# Altium schematic symbol library индикаторные эл-ты.SchLib: 14 symbols
Pins are listed as number, name and electrical type; pins without a type are passive.

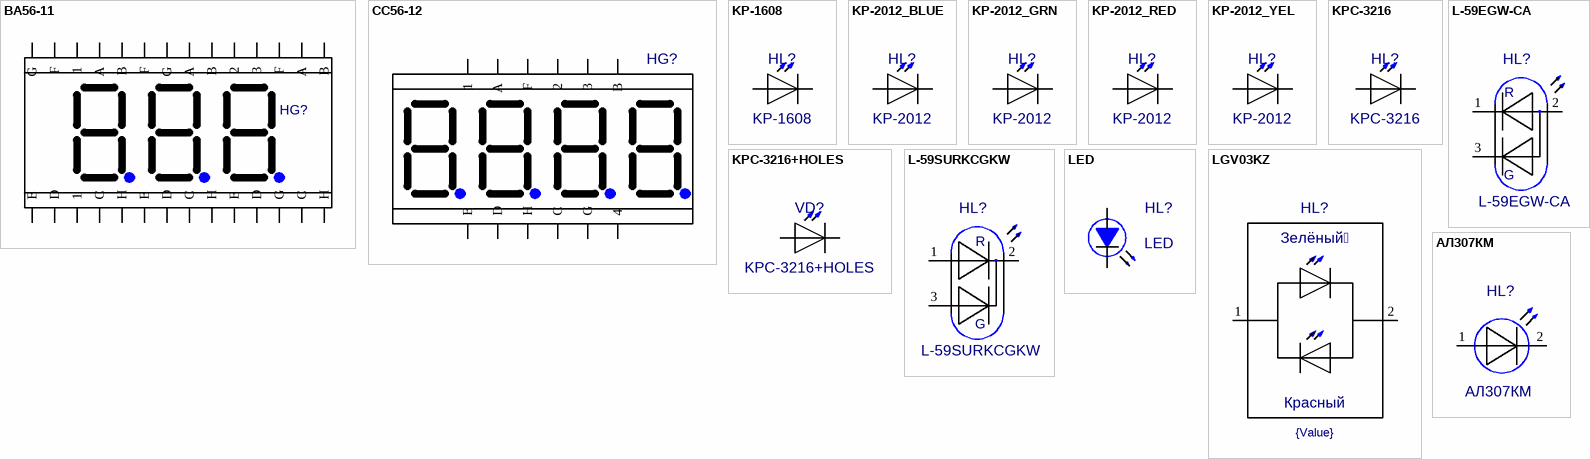
[diagram p0: symbols BA56-11 to АЛ307КМ]

## BA56-11
designator HG?  (value not drawn)
Value: *
footprint BA56-11
pins: A1 A, A2 A, A3 A, B1 B, B2 B, B3 B, C1 C, C2 C, C3 C, D1 D, D2 D, D3 D, DP1 H, DP2 H, DP3 H, E1 E, E2 E, E3 E, F1 F, F2 F, F3 F, G1 G, G2 G, G3 G, OA1 1, OA1. 1, OA2 2, OA3 3

## CC56-12
designator HG?  (value not drawn)
Value: *
footprint CC56-12
pins: A, B, C, D, DP H, E, F, G, OK1 1, OK2 2, OK3 3, OK4 4

## KP-1608
designator HL?
Value: *
footprint KP-1608
pins: 1 A, 2 K

## KP-2012_BLUE
designator HL?, comment KP-2012
Value: *
footprint KP-2012_BLUE (Светодиод 0805 Синий)
pins: 1 A, 2 K

## KP-2012_GRN
designator HL?, comment KP-2012
Value: *
footprint KP-2012_GRN (Светодиод 0805 Зелёный)
pins: 1 A, 2 K

## KP-2012_RED
designator HL?, comment KP-2012
Value: *
footprint KP-2012_RED (Светодиод 0805 Красный)
pins: 1 A, 2 K

## KP-2012_YEL
designator HL?, comment KP-2012
Value: *
footprint KP-2012_YEL (Светодиод 0805 Жёлтый)
pins: 1 A, 2 K

## KPC-3216
designator HL?
Value: *
footprint KPC-3216
pins: 1 A, 2 K

## KPC-3216+HOLES
designator VD?
Value: *
footprint KPC-3216+HOLES
pins: 1 A, 2 K, 3 hidden, 4 hidden

## L-59EGW-CA
designator HL?
Value: {Value}
pins: 1 C_R, 2 An, 3 C_G
text: R; G

## L-59SURKCGKW
designator HL?
Value: {Value}
pins: 1 A_R, 2 Cat, 3 A_G
text: R; G

## LED
designator HL?
Value: *
footprint LED
pins: 1 A, 2 K

## LGV03KZ
designator HL?  value {Value}  (hidden comment: LGV03KZ)
footprint LGV03KZ
pins: 1, 2
text: Зелёный; Красный

## АЛ307КМ
designator HL?
Value: *
footprint LED
pins: 1 A, 2 B